# Altium schematic symbol library Bugsly.SchLib: 1 symbol
Pins are listed as number, name and electrical type; pins without a type are passive.

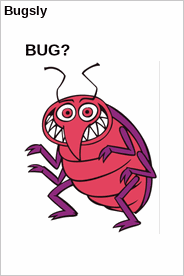
[diagram p0: symbol Bugsly]

## Bugsly
designator BUG?  (graphical)
PCB Bug Marker; Manufacturer: Wavenumber; cad-reference: Bugsly; kicad-symbol-path: symbols\bugsly.kicad_sym; flags: GRAPHICAL; classification: misc/graphical; id: 0199fe35-29de-7f71-706a-758771adce6e; kicad-symbol: bugsly; Manufacturer Part Number: Bugsly